# Altium integrated library Capacitor 0603.IntLib: 45 symbols
Pins are listed as number, name and electrical type; pins without a type are passive.

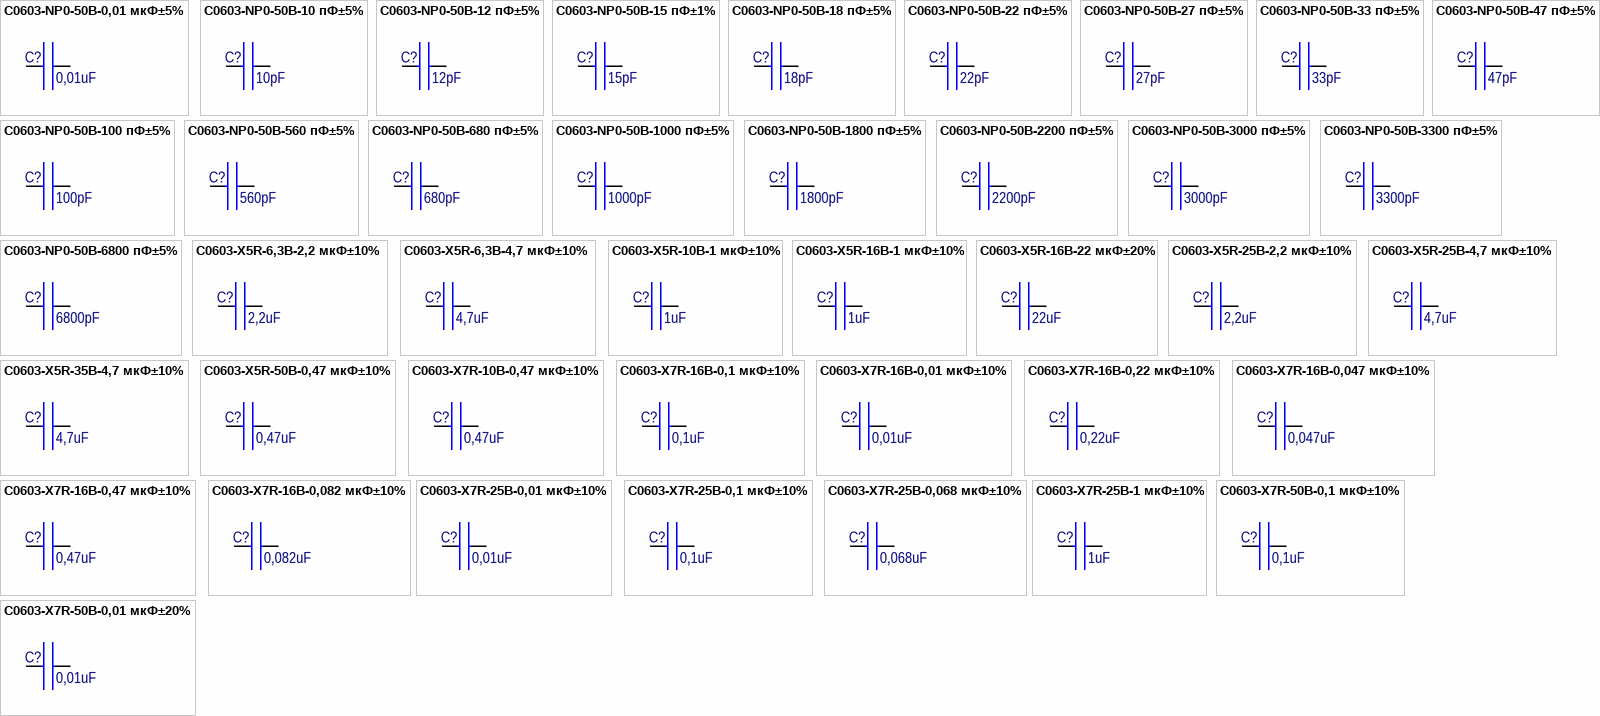
[diagram p0: symbols C0603-NP0-50В-0,01 мкФ±5% to C0603-X7R-50В-0,01 мкФ±20%]

## C0603-NP0-50В-0,01 мкФ±5%
designator C?  value 0,01uF
CAP CER 10000PF 50V NP0 0603; Manufacturer: Murata Electronics; ManufacturerPartNumber: GRM1885C1H103J; Group: 9170; RegulationProcent: 10; TypeName: Конденсатор; Published: 01.10.2015; Publisher: Stanchik A; Distributor: Digi-Key; DistributorPartNumber: 490-9666-1-ND; LatestRevisionDate: 01.10.2015; Package: 1608 [0603]; Library: Capacitor 0603
footprint CAPC1608N  [0603] (Chip Capacitor, Body 1.6x0.8mm, IPC Medium Density)
pins: 1, 2

## C0603-NP0-50В-10 пФ±5%
designator C?  value 10pF
CAP CER 10PF 50V 5% NP0 0603; Manufacturer: Murata Electronics; ManufacturerPartNumber: GRM1885C1H100J; Group: 9170; RegulationProcent: 10; TypeName: Конденсатор; Published: 10.07.2013; Publisher: Konon DI; Distributor: Digi-Key; DistributorPartNumber: 490-1403-1-ND; LatestRevisionDate: 10.07.2013; Package: 1608 [0603]; Library: Capacitor 0603
footprint CAPC1608N  [0603] (Chip Capacitor, Body 1.6x0.8mm, IPC Medium Density)
pins: 1, 2

## C0603-NP0-50В-12 пФ±5%
designator C?  value 12pF
CAP CER 12PF 50V 5% NP0 0603; Manufacturer: Murata Electronics; ManufacturerPartNumber: GRM1885C1H120J; Group: 9170; RegulationProcent: 10; TypeName: Конденсатор; Published: 10.07.2013; Publisher: Konon DI; Distributor: Digi-Key; DistributorPartNumber: 490-1405-1-ND; LatestRevisionDate: 10.07.2013; Package: 1608 [0603]; Library: Capacitor 0603
footprint CAPC1608N  [0603] (Chip Capacitor, Body 1.6x0.8mm, IPC Medium Density)
pins: 1, 2

## C0603-NP0-50В-15 пФ±1%
designator C?  value 15pF
CAP CER 15PF 50V C0G/NP0 0603; Manufacturer: Murata Electronics; ManufacturerPartNumber: GRM1885C1H150F; Group: 9170; RegulationProcent: 10; TypeName: Конденсатор; Published: 29.08.2017; Publisher: Stanchik A; Distributor: Digi-Key; DistributorPartNumber: 490-9715-1-ND; LatestRevisionDate: 29.08.2017; Package: 1608 [0603]; Library: Capacitor 0603
footprint CAPC1608N  [0603] (Chip Capacitor, Body 1.6x0.8mm, IPC Medium Density)
pins: 1, 2

## C0603-NP0-50В-18 пФ±5%
designator C?  value 18pF
CAP CER 18PF 50V 5% NP0 0603; Manufacturer: Murata Electronics; ManufacturerPartNumber: GRM1885C1H180J; Group: 9170; RegulationProcent: 10; TypeName: Конденсатор; Published: 10.07.2013; Publisher: Konon DI; Distributor: Digi-Key; DistributorPartNumber: 490-1409-1-ND; LatestRevisionDate: 10.07.2013; Package: 1608 [0603]; Library: Capacitor 0603
footprint CAPC1608N  [0603] (Chip Capacitor, Body 1.6x0.8mm, IPC Medium Density)
pins: 1, 2

## C0603-NP0-50В-22 пФ±5%
designator C?  value 22pF
CAP CER 22PF 50V 5% NP0 0603; Manufacturer: Murata Electronics; ManufacturerPartNumber: GRM1885C1H220J; Group: 9170; RegulationProcent: 10; TypeName: Конденсатор; Published: 10.07.2013; Publisher: Konon DI; Distributor: Digi-Key; DistributorPartNumber: 490-1411-1-ND; LatestRevisionDate: 10.07.2013; Package: 1608 [0603]; Library: Capacitor 0603
footprint CAPC1608N  [0603] (Chip Capacitor, Body 1.6x0.8mm, IPC Medium Density)
pins: 1, 2

## C0603-NP0-50В-27 пФ±5%
designator C?  value 27pF
CAP CER 27PF 50V NP0 0603; Manufacturer: Murata Electronics; ManufacturerPartNumber: GRM1885C1H270J; Group: 9170; RegulationProcent: 10; TypeName: Конденсатор; Published: 04.03.2016; Publisher: Stanchik A; Distributor: Digi-Key; DistributorPartNumber: 490-1413-1-ND; LatestRevisionDate: 04.03.2016; Package: 1608 [0603]; Library: Capacitor 0603
footprint CAPC1608N  [0603] (Chip Capacitor, Body 1.6x0.8mm, IPC Medium Density)
pins: 1, 2

## C0603-NP0-50В-33 пФ±5%
designator C?  value 33pF
CAP CER 33PF 50V 5% NP0 0603; Manufacturer: Murata Electronics; ManufacturerPartNumber: GRM1885C1H330J; Group: 9170; RegulationProcent: 10; TypeName: Конденсатор; Published: 19.11.2014; Publisher: Stanchik A; Distributor: Digi-Key; DistributorPartNumber: 490-1415-6-ND; LatestRevisionDate: 19.11.2014; Package: 1608 [0603]; Library: Capacitor 0603
footprint CAPC1608N  [0603] (Chip Capacitor, Body 1.6x0.8mm, IPC Medium Density)
pins: 1, 2

## C0603-NP0-50В-47 пФ±5%
designator C?  value 47pF
CAP CER 47PF 50V NP0 0603; Manufacturer: Murata Electronics; ManufacturerPartNumber: GRM1885C1H470J; Group: 9170; RegulationProcent: 10; TypeName: Конденсатор; Published: 02.12.2015; Publisher: Stanchik A; Distributor: Digi-Key; DistributorPartNumber: 490-1419-1-ND; LatestRevisionDate: 02.12.2015; Package: 1608 [0603]; Library: Capacitor 0603
footprint CAPC1608N  [0603] (Chip Capacitor, Body 1.6x0.8mm, IPC Medium Density)
pins: 1, 2

## C0603-NP0-50В-100 пФ±5%
designator C?  value 100pF
CAP CER 100PF 50V 5% NP0 0603; Manufacturer: Murata Electronics; ManufacturerPartNumber: GRM1885C1H101J; Group: 9170; RegulationProcent: 10; TypeName: Конденсатор; Published: 10.07.2013; Publisher: Konon DI; Distributor: Digi-Key; DistributorPartNumber: 490-1427-1-ND; LatestRevisionDate: 10.07.2013; Package: 1608 [0603]; Library: Capacitor 0603
footprint CAPC1608N  [0603] (Chip Capacitor, Body 1.6x0.8mm, IPC Medium Density)
pins: 1, 2

## C0603-NP0-50В-560 пФ±5%
designator C?  value 560pF
CAP CER 560PF 50V C0G/NP0 0603; Manufacturer: Murata Electronics; ManufacturerPartNumber: GRM1885C1H561J; Group: 9170; RegulationProcent: 10; TypeName: Конденсатор; Published: 14.07.2017; Publisher: Stanchik A; Distributor: Digi-Key; DistributorPartNumber: 490-1445-1-ND; LatestRevisionDate: 14.07.2017; Package: 1608 [0603]; Library: Capacitor 0603
footprint CAPC1608N  [0603] (Chip Capacitor, Body 1.6x0.8mm, IPC Medium Density)
pins: 1, 2

## C0603-NP0-50В-680 пФ±5%
designator C?  value 680pF
CAP CER 680PF 50V C0G/NP0 0603; Manufacturer: Murata Electronics; ManufacturerPartNumber: GRM1885C1H681J; Group: 9170; RegulationProcent: 10; TypeName: Конденсатор; Published: 29.08.2017; Publisher: Stanchik A; Distributor: Digi-Key; DistributorPartNumber: 490-1447-1-ND; LatestRevisionDate: 29.08.2017; Package: 1608 [0603]; Library: Capacitor 0603
footprint CAPC1608N  [0603] (Chip Capacitor, Body 1.6x0.8mm, IPC Medium Density)
pins: 1, 2

## C0603-NP0-50В-1000 пФ±5%
designator C?  value 1000pF
CAP CER 1000PF 50V 5% NP0 0603; Manufacturer: Murata Electronics; ManufacturerPartNumber: GRM1885C1H102J; Group: 9170; RegulationProcent: 10; TypeName: Конденсатор; Published: 10.07.2013; Publisher: Konon DI; Distributor: Digi-Key; DistributorPartNumber: 490-1451-1-ND; LatestRevisionDate: 10.07.2013; Package: 1608 [0603]; Library: Capacitor 0603
footprint CAPC1608N  [0603] (Chip Capacitor, Body 1.6x0.8mm, IPC Medium Density)
pins: 1, 2

## C0603-NP0-50В-1800 пФ±5%
designator C?  value 1800pF
CAP CER 1800PF 50V C0G/NP0 0603; Manufacturer: Murata Electronics; ManufacturerPartNumber: GRM1885C1H182J; Group: 9170; RegulationProcent: 10; TypeName: Конденсатор; Published: 09.02.2018; Publisher: Stanchik A; Distributor: Digi-Key; DistributorPartNumber: 490-1457-1-ND; LatestRevisionDate: 09.02.2018; Package: 1608 [0603]; Library: Capacitor 0603
footprint CAPC1608N  [0603] (Chip Capacitor, Body 1.6x0.8mm, IPC Medium Density)
pins: 1, 2

## C0603-NP0-50В-2200 пФ±5%
designator C?  value 2200pF
CAP CER 2200PF 50V 5% NP0 0603; Manufacturer: Murata Electronics; ManufacturerPartNumber: GRM1885C1H222J; Group: 9170; RegulationProcent: 10; TypeName: Конденсатор; Published: 10.07.2013; Publisher: Konon DI; Distributor: Digi-Key; DistributorPartNumber: 490-1459-1-ND; LatestRevisionDate: 10.07.2013; Package: 1608 [0603]; Library: Capacitor 0603
footprint CAPC1608N  [0603] (Chip Capacitor, Body 1.6x0.8mm, IPC Medium Density)
pins: 1, 2

## C0603-NP0-50В-3000 пФ±5%
designator C?  value 3000pF
CAP CER 3000PF 50V 5% NP0 0603; Manufacturer: Murata Electronics; ManufacturerPartNumber: GRM1885C1H302J; Group: 9170; RegulationProcent: 10; TypeName: Конденсатор; Published: 09.03.2015; Publisher: Stanchik A; Distributor: Digi-Key; DistributorPartNumber: 490-6384-1-ND; LatestRevisionDate: 09.03.2015; Package: 1608 [0603]; Library: Capacitor 0603
footprint CAPC1608N  [0603] (Chip Capacitor, Body 1.6x0.8mm, IPC Medium Density)
pins: 1, 2

## C0603-NP0-50В-3300 пФ±5%
designator C?  value 3300pF
CAP CER 3300PF 50V 5% NP0 0603; Manufacturer: Murata Electronics; ManufacturerPartNumber: GRM1885C1H332J; Group: 9170; RegulationProcent: 10; TypeName: Конденсатор; Published: 09.03.2015; Publisher: Stanchik A; Distributor: Digi-Key; DistributorPartNumber: 490-6385-1-ND; LatestRevisionDate: 09.03.2015; Package: 1608 [0603]; Library: Capacitor 0603
footprint CAPC1608N  [0603] (Chip Capacitor, Body 1.6x0.8mm, IPC Medium Density)
pins: 1, 2

## C0603-NP0-50В-6800 пФ±5%
designator C?  value 6800pF
CAP CER 6800PF 50V 5% NP0 0603; Manufacturer: Murata Electronics; ManufacturerPartNumber: GRM1885C1H682J; Group: 9170; RegulationProcent: 10; TypeName: Конденсатор; Published: 13.06.2016; Publisher: Stanchik A; Distributor: Digi-Key; DistributorPartNumber: 490-11477-1-ND; LatestRevisionDate: 13.06.2016; Package: 1608 [0603]; Library: Capacitor 0603
footprint CAPC1608N  [0603] (Chip Capacitor, Body 1.6x0.8mm, IPC Medium Density)
pins: 1, 2

## C0603-X5R-6,3В-2,2 мкФ±10%
designator C?  value 2,2uF
CAP CER 2.2UF 6.3V 10% X5R 0603; Manufacturer: Murata Electronics; ManufacturerPartNumber: GRM188R60J225K; Group: 9170; RegulationProcent: 10; TypeName: Конденсатор; Published: 19.09.2014; Publisher: Stanchik A; Distributor: Digi-Key; DistributorPartNumber: 490-1552-6-ND; LatestRevisionDate: 19.09.2014; Package: 1608 [0603]; Library: Capacitor 0603
footprint CAPC1608N  [0603] (Chip Capacitor, Body 1.6x0.8mm, IPC Medium Density)
pins: 1, 2

## C0603-X5R-6,3В-4,7 мкФ±10%
designator C?  value 4,7uF
CAP CER 4.7UF 6.3V 10% X5R 0603; Manufacturer: Murata Electronics; ManufacturerPartNumber: GRM188R60J475K; Group: 9170; RegulationProcent: 10; TypeName: Конденсатор; Published: 10.07.2013; Publisher: Konon DI; Distributor: Digi-Key; DistributorPartNumber: 490-3297-1-ND; LatestRevisionDate: 10.07.2013; Package: 1608 [0603]; Library: Capacitor 0603
footprint CAPC1608N  [0603] (Chip Capacitor, Body 1.6x0.8mm, IPC Medium Density)
pins: 1, 2

## C0603-X5R-10В-1 мкФ±10%
designator C?  value 1uF
CAP CER 1UF 10V X5R 0603; Manufacturer: Murata Electronics; ManufacturerPartNumber: GRM188R61A105K; Group: 9170; RegulationProcent: 10; TypeName: Конденсатор; Published: 02.05.2017; Publisher: Stanchik A; Distributor: Digi-Key; DistributorPartNumber: 490-1543-1-ND; LatestRevisionDate: 02.05.2017; Package: 1608 [0603]; Library: Capacitor 0603
footprint CAPC1608N  [0603] (Chip Capacitor, Body 1.6x0.8mm, IPC Medium Density)
pins: 1, 2

## C0603-X5R-16В-1 мкФ±10%
designator C?  value 1uF
CAP CER 1UF 16V X5R 0603; Manufacturer: Murata Electronics; ManufacturerPartNumber: GRM185R61C105K; Group: 9170; RegulationProcent: 10; TypeName: Конденсатор; Published: 02.05.2017; Publisher: Stanchik A; Distributor: Digi-Key; DistributorPartNumber: 490-3894-1-ND; LatestRevisionDate: 02.05.2017; Package: 1608 [0603]; Library: Capacitor 0603
footprint CAPC1608x05N  [0603] (Chip Capacitor, Body 1.6x0.8mm, IPC Medium Density)
pins: 1, 2

## C0603-X5R-16В-22 мкФ±20%
designator C?, comment value 22uF  (hidden comment: CL10A226MO7JZNC)
CAP CER 22UF 16V X5R ±20%; Manufacturer: Murata Electronics; ManufacturerPartNumber: GRM188R61E225K; Group: 9170; RegulationProcent: 10; TypeName: Конденсатор; Published: 18.09.2017; Publisher: Stanchik A; Distributor: Digi-Key; DistributorPartNumber: 490-10731-1-ND; LatestRevisionDate: 18.09.2017; Package: 1608 [0603]; Library: Capacitor 0603; Supplier 1: Future Electronics; Supplier Part Number 1: 9124210
footprint CAPC1608N  [0603] (Chip Capacitor, Body 1.6x0.8mm, IPC Medium Density)
pins: 1, 2

## C0603-X5R-25В-2,2 мкФ±10%
designator C?  value 2,2uF
CAP CER 2.2UF 25V X5R 0603; Manufacturer: Murata Electronics; ManufacturerPartNumber: GRM188R61E225K; Group: 9170; RegulationProcent: 10; TypeName: Конденсатор; Published: 18.09.2017; Publisher: Stanchik A; Distributor: Digi-Key; DistributorPartNumber: 490-10731-1-ND; LatestRevisionDate: 18.09.2017; Package: 1608 [0603]; Library: Capacitor 0603
footprint CAPC1608N  [0603] (Chip Capacitor, Body 1.6x0.8mm, IPC Medium Density)
pins: 1, 2

## C0603-X5R-25В-4,7 мкФ±10%
designator C?  value 4,7uF
CAP CER 4.7UF 25V 10% X5R 0603; Manufacturer: Murata Electronics; ManufacturerPartNumber: GRM188R61E475K; Group: 9170; RegulationProcent: 10; TypeName: Конденсатор; Published: 10.07.2013; Publisher: Konon DI; Distributor: Digi-Key; DistributorPartNumber: 490-7203-1-ND; LatestRevisionDate: 10.07.2013; Package: 1608 [0603]; Library: Capacitor 0603
footprint CAPC1608N  [0603] (Chip Capacitor, Body 1.6x0.8mm, IPC Medium Density)
pins: 1, 2

## C0603-X5R-35В-4,7 мкФ±10%
designator C?  value 4,7uF
CAP CER 4.7UF 35V X5R 0603; Manufacturer: Murata Electronics; ManufacturerPartNumber: GRM188R6YA475K; Group: 9170; RegulationProcent: 10; TypeName: Конденсатор; Published: 11.03.2016; Publisher: Stanchik A; Distributor: Digi-Key; DistributorPartNumber: 490-7205-1-ND; LatestRevisionDate: 11.03.2016; Package: 1608 [0603]; Library: Capacitor 0603
footprint CAPC1608N  [0603] (Chip Capacitor, Body 1.6x0.8mm, IPC Medium Density)
pins: 1, 2

## C0603-X5R-50В-0,47 мкФ±10%
designator C?  value 0,47uF
CAP CER 0.47UF 50V X5R 0603; Manufacturer: Murata Electronics; ManufacturerPartNumber: GRM188R61H474K; Group: 9170; RegulationProcent: 10; TypeName: Конденсатор; Published: 29.08.2017; Publisher: Stanchik A; Distributor: Digi-Key; DistributorPartNumber: 490-11994-1-ND; LatestRevisionDate: 29.08.2017; Package: 1608 [0603]; Library: Capacitor 0603
footprint CAPC1608N  [0603] (Chip Capacitor, Body 1.6x0.8mm, IPC Medium Density)
pins: 1, 2

## C0603-X7R-10В-0,47 мкФ±10%
designator C?  value 0,47uF
CAP CER 0.47UF 10V 10% X7R 0603; Manufacturer: Murata Electronics; ManufacturerPartNumber: GRM188R71A474K; Group: 9170; RegulationProcent: 10; TypeName: Конденсатор; Published: 07.08.2014; Publisher: Stanchik A; Distributor: Digi-Key; DistributorPartNumber: 490-6420-6-ND; LatestRevisionDate: 07.08.2014; Package: 1608 [0603]; Library: Capacitor 0603
footprint CAPC1608N  [0603] (Chip Capacitor, Body 1.6x0.8mm, IPC Medium Density)
pins: 1, 2

## C0603-X7R-16В-0,1 мкФ±10%
designator C?  value 0,1uF
CAP CER 0.1UF 16V 10% X7R 0603; Manufacturer: Murata Electronics; ManufacturerPartNumber: GRM188R71C104K; Group: 9170; RegulationProcent: 10; TypeName: Конденсатор; Published: 10.07.2013; Publisher: Konon DI; Distributor: Digi-Key; DistributorPartNumber: 490-1532-1-ND; LatestRevisionDate: 10.07.2013; Package: 1608 [0603]; Library: Capacitor 0603
footprint CAPC1608N  [0603] (Chip Capacitor, Body 1.6x0.8mm, IPC Medium Density)
pins: 1, 2

## C0603-X7R-16В-0,01 мкФ±10%
designator C?  value 0,01uF
CAP CER 10000PF 16V 10% X7R 0603; Manufacturer: Murata Electronics; ManufacturerPartNumber: GRM188R71C103K; Group: 9170; RegulationProcent: 10; TypeName: Конденсатор; Published: 10.07.2013; Publisher: Konon DI; Distributor: Digi-Key; DistributorPartNumber: 490-1525-1-ND; LatestRevisionDate: 10.07.2013; Package: 1608 [0603]; Library: Capacitor 0603
footprint CAPC1608N  [0603] (Chip Capacitor, Body 1.6x0.8mm, IPC Medium Density)
pins: 1, 2

## C0603-X7R-16В-0,22 мкФ±10%
designator C?  value 0,22uF
CAP CER 0.22UF 16V 10% X7R 0603; Manufacturer: Murata Electronics; ManufacturerPartNumber: GRM188R71C224K; Group: 9170; RegulationProcent: 10; TypeName: Конденсатор; Published: 10.07.2013; Publisher: Konon DI; Distributor: Digi-Key; DistributorPartNumber: 490-3293-1-ND; LatestRevisionDate: 10.07.2013; Package: 1608 [0603]; Library: Capacitor 0603
footprint CAPC1608N  [0603] (Chip Capacitor, Body 1.6x0.8mm, IPC Medium Density)
pins: 1, 2

## C0603-X7R-16В-0,047 мкФ±10%
designator C?  value 0,047uF
CAP CER 0.047UF 16V 10% X7R 0603; Manufacturer: Murata Electronics; ManufacturerPartNumber: GRM188R71C473K; Group: 9170; RegulationProcent: 10; TypeName: Конденсатор; Published: 31.03.2017; Publisher: Stanchik A; Distributor: Digi-Key; DistributorPartNumber: 490-1529-1-ND; LatestRevisionDate: 31.03.2017; Package: 1608 [0603]; Library: Capacitor 0603
footprint CAPC1608N  [0603] (Chip Capacitor, Body 1.6x0.8mm, IPC Medium Density)
pins: 1, 2

## C0603-X7R-16В-0,47 мкФ±10%
designator C?  value 0,47uF
CAP CER 0.47UF 16V 10% X7R 0603; Manufacturer: Murata Electronics; ManufacturerPartNumber: GRM188R71C474K; Group: 9170; RegulationProcent: 10; TypeName: Конденсатор; Published: 10.07.2013; Publisher: Konon DI; Distributor: Digi-Key; DistributorPartNumber: 490-3295-1-ND; LatestRevisionDate: 10.07.2013; Package: 1608 [0603]; Library: Capacitor 0603
footprint CAPC1608N  [0603] (Chip Capacitor, Body 1.6x0.8mm, IPC Medium Density)
pins: 1, 2

## C0603-X7R-16В-0,082 мкФ±10%
designator C?  value 0,082uF
CAP CER 0.082UF 16V X7R 0603; Manufacturer: Murata Electronics; ManufacturerPartNumber: GRM188R71C823K; Group: 9170; RegulationProcent: 10; TypeName: Конденсатор; Published: 18.04.2016; Publisher: Stanchik A; Distributor: Digi-Key; DistributorPartNumber: 490-11516-1-ND; LatestRevisionDate: 18.04.2016; Package: 1608 [0603]; Library: Capacitor 0603
footprint CAPC1608N  [0603] (Chip Capacitor, Body 1.6x0.8mm, IPC Medium Density)
pins: 1, 2

## C0603-X7R-25В-0,01 мкФ±10%
designator C?  value 0,01uF
CAP CER 10000PF 25V 10% X7R 0603; Manufacturer: Murata Electronics; ManufacturerPartNumber: GRM188R71E103K; Group: 9170; RegulationProcent: 10; TypeName: Конденсатор; Published: 11.03.2016; Publisher: Stanchik A; Distributor: Digi-Key; DistributorPartNumber: 490-1520-1-ND; LatestRevisionDate: 10.03.2016; Package: 1608 [0603]; Library: Capacitor 0603
footprint CAPC1608N  [0603] (Chip Capacitor, Body 1.6x0.8mm, IPC Medium Density)
pins: 1, 2

## C0603-X7R-25В-0,1 мкФ±10%
designator C?  value 0,1uF
CAP CER 0.1UF 25V 10% X7R 0603; Manufacturer: Murata Electronics; ManufacturerPartNumber: GRM188R71E104K; Group: 9170; RegulationProcent: 10; TypeName: Конденсатор; Published: 17.02.2015; Publisher: Stanchik A; Distributor: Digi-Key; DistributorPartNumber: 490-1524-1-ND; LatestRevisionDate: 17.02.2015; Package: 1608 [0603]; Library: Capacitor 0603
footprint CAPC1608N  [0603] (Chip Capacitor, Body 1.6x0.8mm, IPC Medium Density)
pins: 1, 2

## C0603-X7R-25В-0,068 мкФ±10%
designator C?  value 0,068uF
CAP CER 0.068UF 25V 10% X7R 0603; Manufacturer: Murata Electronics; ManufacturerPartNumber: GRM188R71E683K; Group: 9170; RegulationProcent: 10; TypeName: Конденсатор; Published: 18.02.2015; Publisher: Stanchik A; Distributor: Digi-Key; DistributorPartNumber: 490-1523-1-ND; LatestRevisionDate: 18.02.2015; Package: 1608 [0603]; Library: Capacitor 0603
footprint CAPC1608N  [0603] (Chip Capacitor, Body 1.6x0.8mm, IPC Medium Density)
pins: 1, 2

## C0603-X7R-25В-1 мкФ±10%
designator C?  value 1uF
CAP CER 1UF 25V 10% X7R 0603; Manufacturer: Murata Electronics; ManufacturerPartNumber: GRM188R71E105K; Group: 9170; RegulationProcent: 10; TypeName: Конденсатор; Published: 31.03.2017; Publisher: Stanchik A; Distributor: Digi-Key; DistributorPartNumber: 490-5307-1-ND; LatestRevisionDate: 31.03.2017; Package: 1608 [0603]; Library: Capacitor 0603
footprint CAPC1608N  [0603] (Chip Capacitor, Body 1.6x0.8mm, IPC Medium Density)
pins: 1, 2

## C0603-X7R-50В-0,1 мкФ±10%
designator C?  value 0,1uF
CAP CER 0.1UF 50V X7R 0603; Manufacturer: Murata Electronics; ManufacturerPartNumber: GRM188R71H104K; Group: 9170; RegulationProcent: 10; TypeName: Конденсатор; Published: 08.11.2017; Publisher: Stanchik A; Distributor: Digi-Key; DistributorPartNumber: 490-1519-1-ND; LatestRevisionDate: 08.11.2017; Package: 1608 [0603]; Library: Capacitor 0603
footprint CAPC1608N  [0603] (Chip Capacitor, Body 1.6x0.8mm, IPC Medium Density)
pins: 1, 2

## C0603-X7R-50В-0,01 мкФ±20%
designator C?  value 0,01uF
CAP CER 10000PF 50V 20% X7R 0603; Manufacturer: Murata Electronics; ManufacturerPartNumber: GRM188R71H103M; Group: 9170; RegulationProcent: 10; TypeName: Конденсатор; Published: 10.07.2014; Publisher: Stanchik A; Distributor: Digi-Key; DistributorPartNumber: 490-1511-6-ND; LatestRevisionDate: 10.07.2014; Package: 1608 [0603]; Library: Capacitor 0603
footprint CAPC1608N  [0603] (Chip Capacitor, Body 1.6x0.8mm, IPC Medium Density)
pins: 1, 2

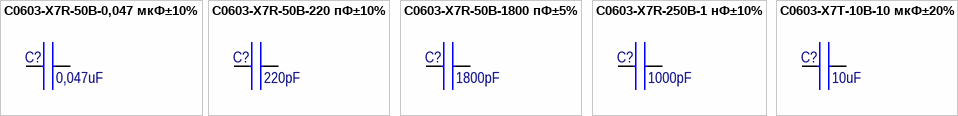
[diagram p1: symbols C0603-X7R-50В-0,047 мкФ±10% to C0603-X7T-10В-10 мкФ±20%]

## C0603-X7R-50В-0,047 мкФ±10%
designator C?  value 0,047uF
CAP CER 0.047UF 50V X7R 0603; Manufacturer: Murata Electronics; ManufacturerPartNumber: GRM188R71H473K; Group: 9170; RegulationProcent: 10; TypeName: Конденсатор; Published: 29.08.2017; Publisher: Stanchik A; Distributor: Digi-Key; DistributorPartNumber: 490-3287-1-ND; LatestRevisionDate: 29.08.2017; Package: 1608 [0603]; Library: Capacitor 0603
footprint CAPC1608N  [0603] (Chip Capacitor, Body 1.6x0.8mm, IPC Medium Density)
pins: 1, 2

## C0603-X7R-50В-220 пФ±10%
designator C?  value 220pF
CAP CER 220PF 50V 10% X7R 0603; Manufacturer: Murata Electronics; ManufacturerPartNumber: GRM188R71H221K; Group: 9170; RegulationProcent: 10; TypeName: Конденсатор; Published: 20.07.2015; Publisher: Konon DI; Distributor: Digi-Key; DistributorPartNumber: 490-1483-1-ND; LatestRevisionDate: 20.07.2015; Package: 1608 [0603]; Library: Capacitor 0603
footprint CAPC1608N  [0603] (Chip Capacitor, Body 1.6x0.8mm, IPC Medium Density)
pins: 1, 2

## C0603-X7R-50В-1800 пФ±5%
designator C?  value 1800pF
CAP CER 1800PF 50V X7R 0603; Manufacturer: Murata Electronics; ManufacturerPartNumber: GRM188R71H182J; Group: 9170; RegulationProcent: 10; TypeName: Конденсатор; Published: 29.08.2017; Publisher: Stanchik A; Distributor: Digi-Key; DistributorPartNumber: 490-14376-1-ND; LatestRevisionDate: 29.08.2017; Package: 1608 [0603]; Library: Capacitor 0603
footprint CAPC1608N  [0603] (Chip Capacitor, Body 1.6x0.8mm, IPC Medium Density)
pins: 1, 2

## C0603-X7R-250В-1 нФ±10%
designator C?  value 1000pF
CAP CER 1000PF 250V X7R 0603; Manufacturer: Murata Electronics; ManufacturerPartNumber: GRM188R72E102K; Group: 9170; RegulationProcent: 10; TypeName: Конденсатор; Published: 28.03.2017; Publisher: Stanchik A; Distributor: Digi-Key; DistributorPartNumber: 490-3526-1-ND; LatestRevisionDate: 28.03.2017; Package: 1608 [0603]; Library: Capacitor 0603
footprint CAPC1608N  [0603] (Chip Capacitor, Body 1.6x0.8mm, IPC Medium Density)
pins: 1, 2

## C0603-X7T-10В-10 мкФ±20%
designator C?  value 10uF
CAP CER 10UF 10V 20% X7T 0603; Manufacturer: Murata Electronics; ManufacturerPartNumber: GRM188D71A106M; Group: 9170; RegulationProcent: 10; TypeName: Конденсатор; Published: 07.08.2014; Publisher: Stanchik A; Distributor: Digi-Key; DistributorPartNumber: 490-7200-6-ND; LatestRevisionDate: 07.08.2014; Package: 1608 [0603]; Library: Capacitor 0603
footprint CAPC1608N  [0603] (Chip Capacitor, Body 1.6x0.8mm, IPC Medium Density)
pins: 1, 2